# Altium schematic symbol library MMBT3904T.SchLib: 1 symbol
Pins are listed as number, name and electrical type; pins without a type are passive.

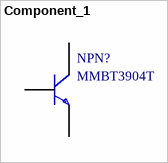
[diagram p0: symbol Component_1]

## Component_1
designator NPN?, comment MMBT3904T
footprint MMBT3904T (NPN)
pins: 1 C, 2 B, 3 E